# Altium integrated library NE555N.IntLib: 1 symbol
Pins are listed as number, name and electrical type; pins without a type are passive.

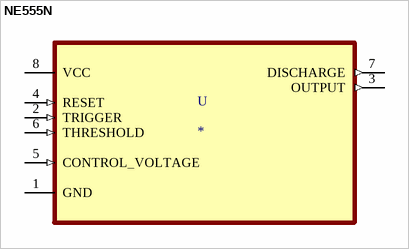
[diagram p0: symbol NE555N]

## NE555N
designator U
555 Type, Timer/Oscillator _Single_ IC 8-DIP; MF: ON Semiconductor; MP: NE555N; Value: *; Price: None; Package: DIP-8 Texas Instruments; SnapEDA_Link: https://www.snapeda.com/parts/NE555N/ON%20Semiconductor/view-part/2757993/?ref=snap; Availability: Unavailable
footprint DIP254P762X533-8
pins: 1 GND, 2 TRIGGER (in), 3 OUTPUT (out), 4 RESET (in), 5 CONTROL_VOLTAGE (in), 6 THRESHOLD (in), 7 DISCHARGE (out), 8 VCC (power)